# Altium footprint library VSON-12.PcbLib: 1 footprints
Each footprint in its own frame and in the unit in brackets; x right, y up, seen from the top. Pads: shape width x height; smd on the part's side, far side on the other; paste and mask are expansions set on the pad; w line width, h text height; cw(c..) or ccw(c..) is an arc to the next point about the centre after c.
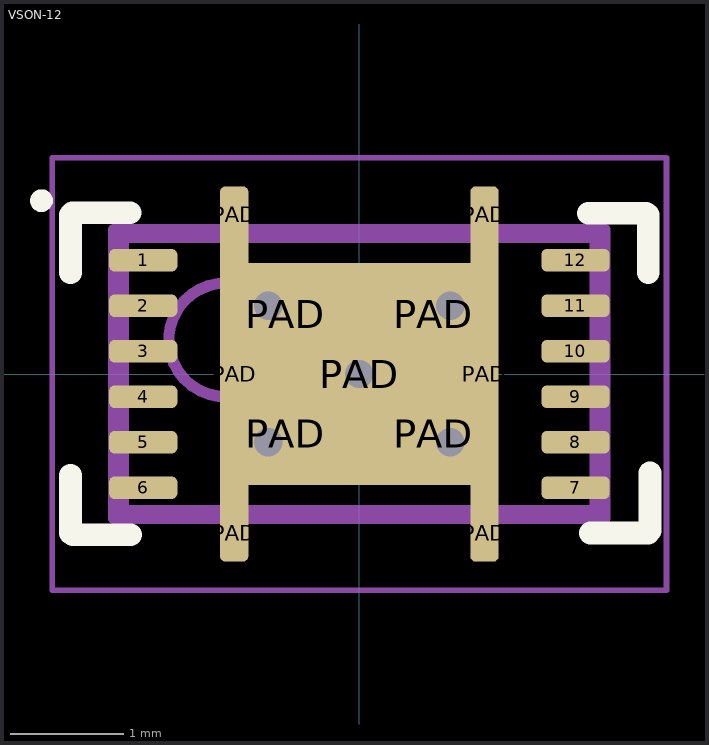
[diagram p0: the footprint, top view; thin cyan lines are the x and y axes]

## VSON-12 [mm]
pads (23):
  rrect50% 0.6x0.2 smd: 1(-1.9,1) 2(-1.9,0.6) 3(-1.9,0.2) 4(-1.9,-0.2) 5(-1.9,-0.6) 6(-1.9,-1) 7(1.9,-1) 8(1.9,-0.6) 9(1.9,-0.2) 10(1.9,0.2) 11(1.9,0.6) 12(1.9,1)
  rrect40% 0.25x0.5 smd paste+0 mask-10: PAD(-1.1,-1.4) PAD(-1.1,1.4) PAD(1.1,-1.4) PAD(1.1,1.4)
  rrect50% 0.25x3.3 smd paste-10: PAD(-1.1,0) PAD(1.1,0)
  rrect10% 1.1x0.85 smd paste+0 mask-10: PAD(-0.65,-0.525) PAD(-0.65,0.525) PAD(0.65,-0.525) PAD(0.65,0.525)
  rect 2.45x1.95 smd paste-10: PAD(0,0)
via 0,0 diameter 0.6 hole 0.25
via 0.8,0.6 diameter 0.6 hole 0.25
via -0.8,0.6 diameter 0.6 hole 0.25
via -0.8,-0.6 diameter 0.6 hole 0.25
via 0.8,-0.6 diameter 0.6 hole 0.25
Top Overlay:
  circle w0.1: c-2.794,1.524 r0.05
  lines w0.2: -2.54,-1.397 -2.54,-0.889 ; -2.54,0.889 -2.54,1.397 ; -2.524,1.417 -2.016,1.417 ; -2.52,-1.413 -2.012,-1.413 ; 2.012,1.413 2.52,1.413 ; 2.032,-1.397 2.54,-1.397 ; 2.54,0.889 2.54,1.397 ; 2.556,-1.377 2.556,-0.869
Mechanical 1:
  circle w0.1: c-2.54,1.143 r0.05
  lines w0.1: -2.159,-1.27 2.159,-1.27 2.159,1.27 -2.159,1.27 -2.159,-1.27
  text ".Designator" at 0,-0.014 h0.6
Mechanical 13:
  circle w0.1: c-1.175,0.3 r0.5
  lines w0.1: -2.075,-1.2 2.075,-1.2 2.075,1.2 -2.075,1.2 -2.075,-1.2
Mechanical 15:
  lines w0.05: -2.7,-1.9 -1.4,-1.9 1.4,-1.9 2.7,-1.9 2.7,1.9 1.4,1.9 -1.4,1.9 -2.7,1.9 -2.7,-1.9
  lines w0.1: -0.5,0 0.5,0 ; 0,-0.5 0,0.5
3D body "SON12-DRZ-SON40P400X100_HS-13M.step": height 1, standoff 0, extent -2.125,-1.225 2.125,1.225